# EAGLE library part TPS82130 (library common)
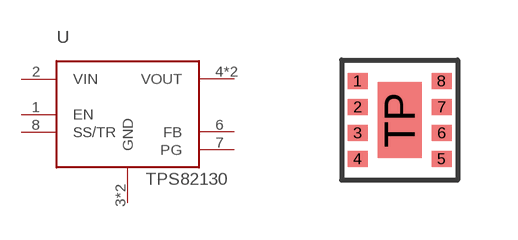
[diagram p40: symbol with the pads of SIL0008C; footprint SIL0008C]

Designator prefix U

## TPS82130  [SIL0008C]
1  EN
2  VIN
3  GND
4  VOUT
5  VOUT
6  FB
7  PG
8  SS/TR
TP  GND

## Footprint SIL0008C (pad centres in mm)
smd 0.5 x 0.4: 1 -1.05,0.975; 2 -1.05,0.325; 3 -1.05,-0.325; 4 -1.05,-0.975; 5 1.05,-0.975; 6 1.05,-0.325; 7 1.05,0.325; 8 1.05,0.975
smd 1.1 x 1.9: TP 0,0